# Altium schematic symbol library WA-SMSI_M5.SchLib: 3 symbols
Pins are listed as number, name and electrical type; pins without a type are passive.

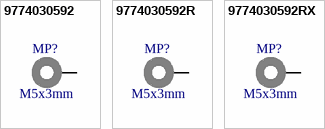
[diagram p0: symbols 9774030592 to 9774030592RX]

## 9774030592
designator MP?, comment M5x3mm
WA-SMSI SMT Steel Spacer, M5 Thread Internal, OD 9.2mm, M5x3mm; Manufacturer Part Number: 9774030592; Manufacturer: Wurth Elektronik; Inner Diameter: 5.8mm; Surface: Tin; ComponentLink1Description: Manufacturer; ComponentLink1URL: http://www.we-online.de; ComponentLink2Description: Datasheet; ComponentLink2URL: https://www.we-online.com/catalog/datasheet/9774030592.pdf; Mounting Technology: SMT; Packaging: Bulk; Length: 3mm; Inner Thread Length: -; Operating Temperature: -55 to +150degC; Outer Diameter: 9.2mm; Published Date: April 2020; Material: Steel; Thread: M5
footprint 9774030592
pins: 1

## 9774030592R
designator MP?, comment M5x3mm
WA-SMSI SMT Steel Spacer, M5 Thread Internal, OD 9.2mm, M5x3mm; Manufacturer Part Number: 9774030592R; Manufacturer: Wurth Elektronik; Inner Diameter: 5.8mm; Surface: Tin; ComponentLink1Description: Manufacturer; ComponentLink1URL: http://www.we-online.de; ComponentLink2Description: Datasheet; ComponentLink2URL: https://www.we-online.com/catalog/datasheet/9774030592R.pdf; Mounting Technology: SMT; Packaging: Tape and Reel; Length: 3mm; Inner Thread Length: -; Operating Temperature: -55 to +150degC; Outer Diameter: 9.2mm; Published Date: December 2020; Material: Steel; Thread: M5
footprint 9774030592
pins: 1

## 9774030592RX
designator MP?, comment M5x3mm
WA-SMSI SMT Steel Spacer, M5 Thread Internal, OD 9.2mm, M5x3mm; Manufacturer Part Number: 9774030592RX; Manufacturer: Wurth Elektronik; Inner Diameter: 5.8mm; Surface: Tin; ComponentLink1Description: Manufacturer; ComponentLink1URL: http://www.we-online.de; ComponentLink2Description: Datasheet; ComponentLink2URL: https://www.we-online.com/catalog/datasheet/9774030592RX.pdf; Mounting Technology: SMT; Packaging: Tape and Reel; Length: 3mm; Inner Thread Length: -; Operating Temperature: -55 to +150degC; Outer Diameter: 9.2mm; Published Date: December 2020; Material: Steel; Thread: M5
footprint 9774030592
pins: 1